# Altium footprint library 61301011121.PcbLib: 1 footprints
Each footprint in its own frame and in the unit in brackets; x right, y up, seen from the top. Pads: shape width x height; smd on the part's side, far side on the other; paste and mask are expansions set on the pad; w line width, h text height; cw(c..) or ccw(c..) is an arc to the next point about the centre after c.
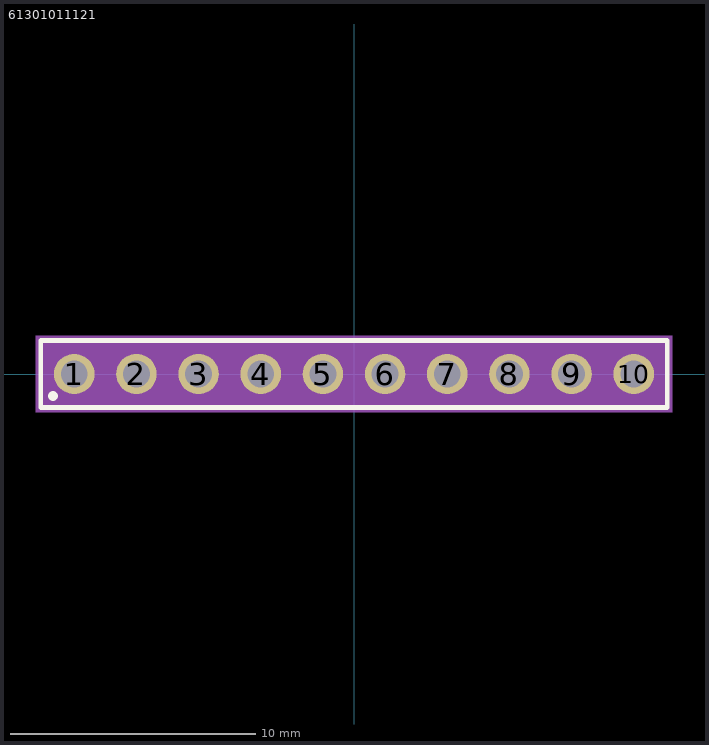
[diagram p0: the footprint, top view; thin cyan lines are the x and y axes]

## 61301011121 [mm]
pads (10):
  round 1.65 hole 1.1: 1(-11.43,0) 2(-8.89,0) 3(-6.35,0) 4(-3.81,0) 5(-1.27,0) 6(1.27,0) 7(3.81,0) 8(6.35,0) 9(8.89,0) 10(11.43,0)
Top Overlay:
  circle w0.2: c-12.3,-0.9 r0.1
  lines w0.2: -12.8,-1.37 -12.8,1.37 12.8,1.37 12.8,-1.37 -12.8,-1.37
Assembly Top:
  lines w0.1: -12.7,-1.27 12.7,-1.27 12.7,1.27 -12.7,1.27 -12.7,-1.27
Courtyard Top:
  region: 13,-1.57 -13,-1.57 -13,1.57 13,1.57
3D body "step_temp.STEP": height 7.27, standoff -4.27, extent -12.7,-1.27 12.7,1.27